# Altium footprint library RectangularConnectors.PcbLib: 154 footprints (part 7 of 10)
Each footprint in its own frame and in the unit in brackets; x right, y up, seen from the top. Pads: shape width x height; smd on the part's side, far side on the other; paste and mask are expansions set on the pad; w line width, h text height; cw(c..) or ccw(c..) is an arc to the next point about the centre after c.
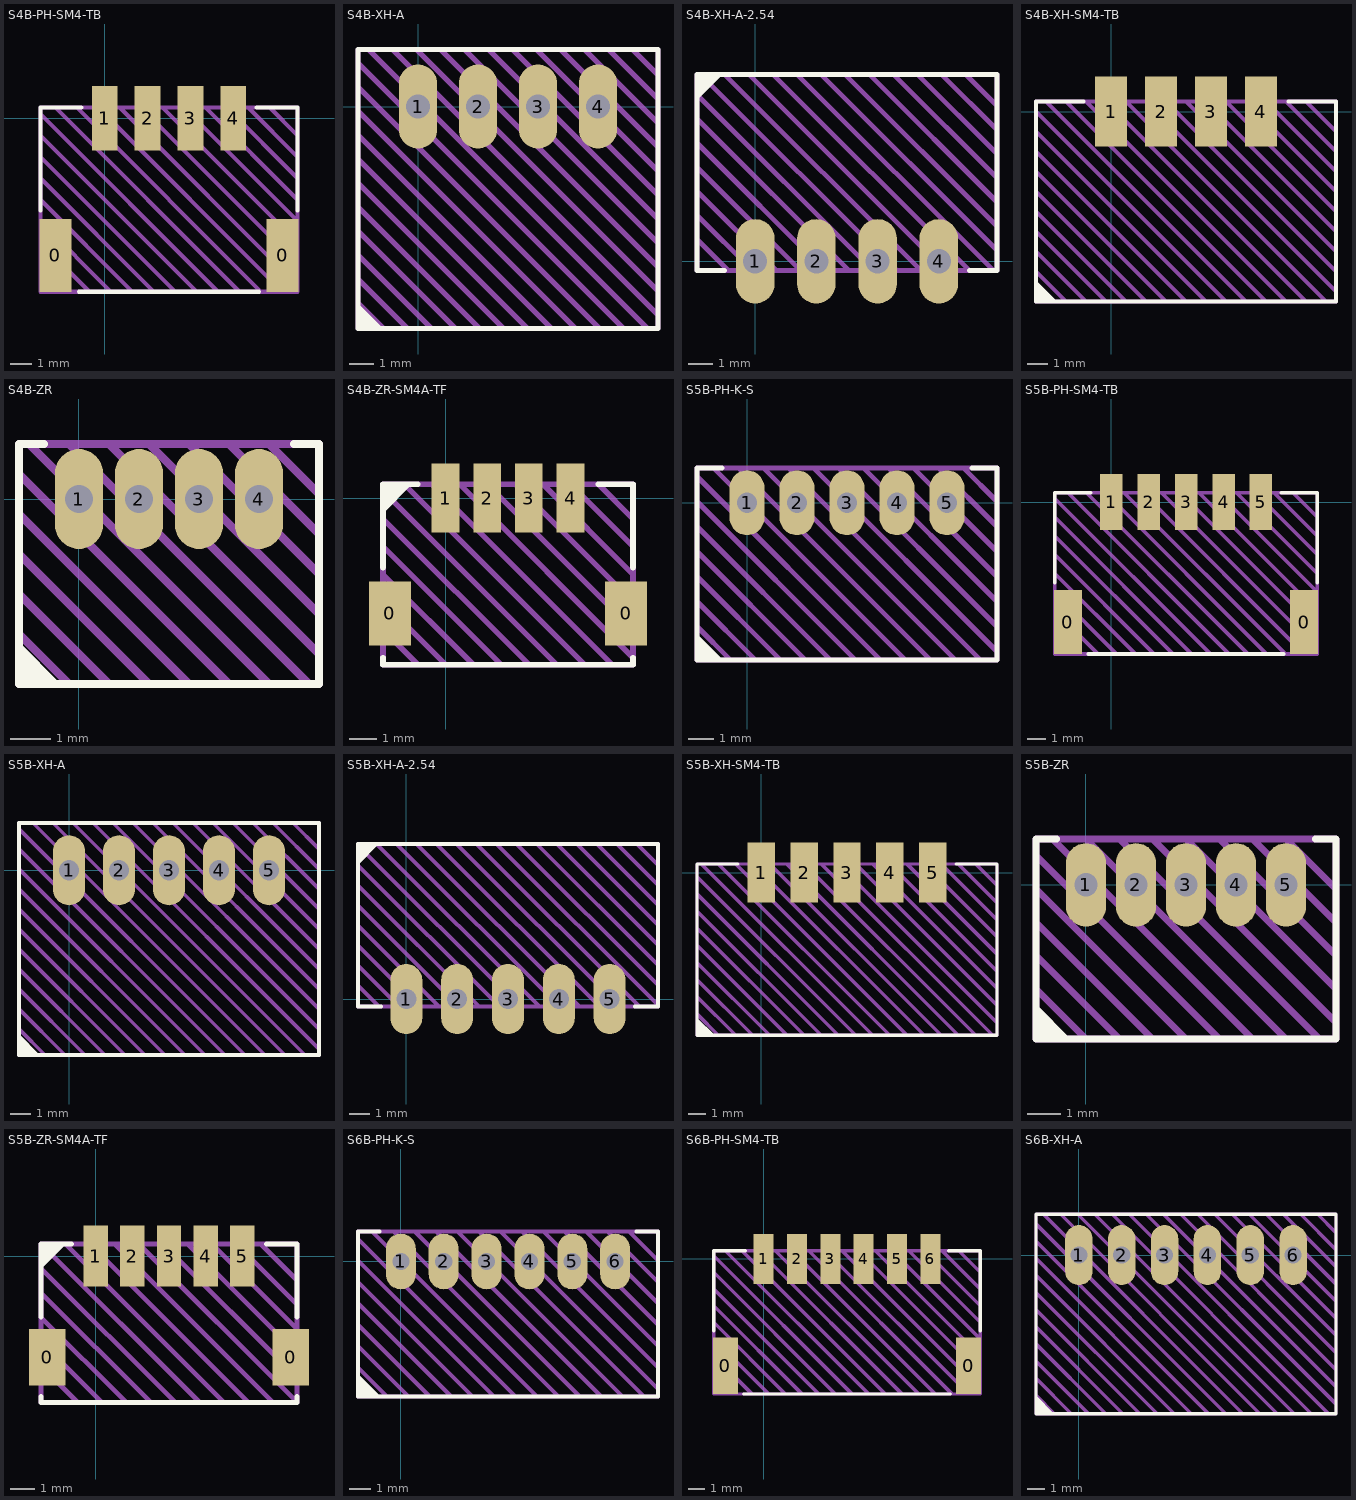
[diagram p6: the footprints below, top view; thin cyan lines are the x and y axes]

## S4B-PH-SM4-TB [mm] "PH2.0 SMT Right Angle"
pads (6):
  rect 1.5x3.4 smd: 0(-2.3,-6.4) 0(8.3,-6.4)
  rect 1.2x3 smd: 1(0,0) 2(2,0) 3(4,0) 4(6,0)
Top Overlay:
  lines w0.2: -3,-4.3 -3,0.5 -1.1,0.5 ; -1.2,-8.1 7.2,-8.1 ; 7.1,0.5 9,0.5 9,-4.3
Top Draw:
  lines w0.2: -3,-6.8 -1.7,-8.1 ; -3,-5.8 -0.7,-8.1 ; -3,-4.8 0.3,-8.1 ; -3,-3.8 1.3,-8.1 ; -3,-2.8 2.3,-8.1 ; -3,-1.8 3.3,-8.1 ; -3,-0.8 4.3,-8.1 ; -3,0.2 5.3,-8.1 ; -2.3,0.5 6.3,-8.1 ; -1.3,0.5 7.3,-8.1 ; -0.3,0.5 8.3,-8.1 ; 0.7,0.5 9,-7.8 ; 1.7,0.5 9,-6.8 ; 2.7,0.5 9,-5.8 ; 3.7,0.5 9,-4.8 ; 4.7,0.5 9,-3.8 ; 5.7,0.5 9,-2.8 ; 6.7,0.5 9,-1.8 ; 7.7,0.5 9,-0.8 ; -3,-8.1 -3,0.5 9,0.5 9,-8.1 -3,-8.1
Top Info:
  text "'.Comment'" at -1.249,-9.583 h1
3D body "S4B-PH-SM4-TB.step": height 5.52, standoff 0.02, extent -2.95,-8.1 8.95,0.5

## S4B-XH-A [mm] "XH2.5 PTH Right Angle"
pads (4):
  oval 1.6x3.5 hole 1: 1(0,0) 2(2.5,0) 3(5,0) 4(7.5,0)
Top Overlay:
  region: -1.46,-9.25 -2.5,-8.21 -2.5,-9.25
  lines w0.2: -2.5,-9.25 -2.5,2.375 10,2.375 10,-9.25 -2.5,-9.25
Top Draw:
  lines w0.2: -2.5,-8.188 -1.438,-9.25 ; -2.5,-7.188 -0.438,-9.25 ; -2.5,-6.188 0.562,-9.25 ; -2.5,-5.188 1.562,-9.25 ; -2.5,-4.188 2.562,-9.25 ; -2.5,-3.188 3.562,-9.25 ; -2.5,-2.188 4.562,-9.25 ; -2.5,-1.188 5.562,-9.25 ; -2.5,-0.188 6.562,-9.25 ; -2.5,0.813 7.562,-9.25 ; -2.5,1.812 8.562,-9.25 ; -2.063,2.375 9.563,-9.25 ; -1.062,2.375 10,-8.688 ; -0.062,2.375 10,-7.687 ; 0.938,2.375 10,-6.687 ; 1.938,2.375 10,-5.687 ; 2.938,2.375 10,-4.687 ; 3.938,2.375 10,-3.687 ; 4.938,2.375 10,-2.687 ; 5.938,2.375 10,-1.687 ; 6.938,2.375 10,-0.687 ; 7.938,2.375 10,0.313 ; 8.938,2.375 10,1.313 ; -2.5,-9.25 -2.5,2.375 10,2.375 10,-9.25 -2.5,-9.25
Top Info:
  text "'.Comment'" at -0.499,-10.708 h1
3D body "S4B-XH-A.step": height 5.77, standoff -3.48, extent -2.45,-9.2 9.95,2.3

## S4B-XH-A-2.54 [mm] "XH2.54 PTH Right Angle"
pads (4):
  oval 1.6x3.5 hole 1: 1(0,0) 2(2.54,0) 3(5.08,0) 4(7.62,0)
Top Overlay:
  region: -2.413,6.707 -1.373,7.747 -2.413,7.747
  lines w0.2: -1.27,-0.381 -2.413,-0.381 -2.413,7.747 10.033,7.747 10.033,-0.381 8.89,-0.381
Top Draw:
  lines w0.2: -2.413,0.906 -1.126,-0.381 ; -2.413,1.906 -0.126,-0.381 ; -2.413,2.906 0.874,-0.381 ; -2.413,3.906 1.874,-0.381 ; -2.413,4.906 2.874,-0.381 ; -2.413,5.906 3.874,-0.381 ; -2.413,6.906 4.874,-0.381 ; -2.254,7.747 5.874,-0.381 ; -1.254,7.747 6.874,-0.381 ; -0.254,7.747 7.874,-0.381 ; 0.746,7.747 8.874,-0.381 ; 1.746,7.747 9.874,-0.381 ; 2.746,7.747 10.033,0.46 ; 3.746,7.747 10.033,1.46 ; 4.746,7.747 10.033,2.46 ; 5.746,7.747 10.033,3.46 ; 6.746,7.747 10.033,4.46 ; 7.746,7.747 10.033,5.46 ; 8.746,7.747 10.033,6.46 ; -2.413,-0.381 -2.413,7.747 10.033,7.747 10.033,-0.381 -2.413,-0.381
Top Info:
  text "'.Comment'" at -0.439,-3.25 h1
3D body "JST - XH - Thru (R) - 4Pin - 2.54mm.stp": height 5.84, standoff -3.38, extent -2.337,-0.325 9.957,7.712

## S4B-XH-SM4-TB [mm] "XH2.5 SMT Right Angle"
pads (4):
  rect 1.6x3.5 smd: 1(0,0) 2(2.5,0) 3(5,0) 4(7.5,0)
Top Overlay:
  region: -3.75,-8.46 -2.71,-9.5 -3.75,-9.5
  lines w0.2: -1.375,0.5 -3.75,0.5 -3.75,-9.5 11.25,-9.5 11.25,0.5 8.875,0.5
Top Draw:
  lines w0.2: -3.75,-8 -2.25,-9.5 ; -3.75,-7 -1.25,-9.5 ; -3.75,-6 -0.25,-9.5 ; -3.75,-5 0.75,-9.5 ; -3.75,-4 1.75,-9.5 ; -3.75,-3 2.75,-9.5 ; -3.75,-2 3.75,-9.5 ; -3.75,-1 4.75,-9.5 ; -3.75,0 5.75,-9.5 ; -3.25,0.5 6.75,-9.5 ; -2.25,0.5 7.75,-9.5 ; -1.25,0.5 8.75,-9.5 ; -0.25,0.5 9.75,-9.5 ; 0.75,0.5 10.75,-9.5 ; 1.75,0.5 11.25,-9 ; 2.75,0.5 11.25,-8 ; 3.75,0.5 11.25,-7 ; 4.75,0.5 11.25,-6 ; 5.75,0.5 11.25,-5 ; 6.75,0.5 11.25,-4 ; 7.75,0.5 11.25,-3 ; 8.75,0.5 11.25,-2 ; 9.75,0.5 11.25,-1 ; -3.75,-9.5 -3.75,0.5 11.25,0.5 11.25,-9.5 -3.75,-9.5
Top Info:
  text "'.Comment'" at -0.499,-10.958 h1
3D body "S4B-XH-SM4-TB.step": height 6, standoff 0, extent -3.75,-9.5 11.25,0.5

## S4B-ZR [mm] "ZH1.5 PTH Right Angle"
pads (4):
  oval 1.2x2.5 hole 0.7: 1(0,0) 2(1.5,0) 3(3,0) 4(4.5,0)
Top Overlay:
  region: -0.46,-4.625 -1.5,-3.585 -1.5,-4.625
  lines w0.2: -0.875,1.375 -1.5,1.375 -1.5,-4.625 6,-4.625 6,1.375 5.375,1.375
Top Draw:
  lines w0.2: -1.5,-3.375 -0.25,-4.625 ; -1.5,-2.375 0.75,-4.625 ; -1.5,-1.375 1.75,-4.625 ; -1.5,-0.375 2.75,-4.625 ; -1.5,0.625 3.75,-4.625 ; -1.25,1.375 4.75,-4.625 ; -0.25,1.375 5.75,-4.625 ; 0.75,1.375 6,-3.875 ; 1.75,1.375 6,-2.875 ; 2.75,1.375 6,-1.875 ; 3.75,1.375 6,-0.875 ; 4.75,1.375 6,0.125 ; -1.5,-4.625 -1.5,1.375 6,1.375 6,-4.625 -1.5,-4.625
Top Info:
  text "'.Comment'" at -0.936,-5.812 h0.75
3D body "S4B-ZR.step": height 3.72, standoff -2.68, extent -1.5,-4.6 6,1.4

## S4B-ZR-SM4A-TF [mm] "ZH1.5 SMT Right Angle"
pads (6):
  rect 1.5x2.3 smd: 0(-2,-4.15) 0(6.5,-4.15)
  rect 1x2.5 smd: 1(0,0) 2(1.5,0) 3(3,0) 4(4.5,0)
Top Overlay:
  region: -1.21,0.5 -2.25,-0.54 -2.25,0.5
  lines w0.2: -2.25,-5.75 -2.25,-6 6.75,-6 6.75,-5.75 ; -2.25,-2.5 -2.25,0.5 -1,0.5 ; 5.5,0.5 6.75,0.5 6.75,-2.5
Top Draw:
  lines w0.2: -2.25,-4.75 -1,-6 ; -2.25,-3.75 0,-6 ; -2.25,-2.75 1,-6 ; -2.25,-1.75 2,-6 ; -2.25,-0.75 3,-6 ; -2.25,0.25 4,-6 ; -1.5,0.5 5,-6 ; -0.5,0.5 6,-6 ; 0.5,0.5 6.75,-5.75 ; 1.5,0.5 6.75,-4.75 ; 2.5,0.5 6.75,-3.75 ; 3.5,0.5 6.75,-2.75 ; 4.5,0.5 6.75,-1.75 ; 5.5,0.5 6.75,-0.75 ; -2.25,-6 -2.25,0.5 6.75,0.5 6.75,-6 -2.25,-6
Top Info:
  text "'.Comment'" at -0.936,-7.187 h0.75
3D body "S4B-ZR-SM4A-TF.step": height 3.72, standoff 0.02, extent -2.25,-6 6.75,0.5

## S5B-PH-K-S [mm] "PH2.0 PTH Right Angle"
pads (5):
  oval 1.4x2.6 hole 0.8: 1(0,0) 2(2,0) 3(4,0) 4(6,0) 5(8,0)
Top Overlay:
  region: -0.96,-6.3 -2,-5.26 -2,-6.3
  lines w0.2: -1,1.4 -2,1.4 -2,-6.3 10,-6.3 10,1.4 ; 9,1.4 10,1.4 ; 10,1.4 10,1.4
Top Draw:
  lines w0.2: -2,-4.95 -0.65,-6.3 ; -2,-3.95 0.35,-6.3 ; -2,-2.95 1.35,-6.3 ; -2,-1.95 2.35,-6.3 ; -2,-0.95 3.35,-6.3 ; -2,0.05 4.35,-6.3 ; -2,1.05 5.35,-6.3 ; -1.35,1.4 6.35,-6.3 ; -0.35,1.4 7.35,-6.3 ; 0.65,1.4 8.35,-6.3 ; 1.65,1.4 9.35,-6.3 ; 2.65,1.4 10,-5.95 ; 3.65,1.4 10,-4.95 ; 4.65,1.4 10,-3.95 ; 5.65,1.4 10,-2.95 ; 6.65,1.4 10,-1.95 ; 7.65,1.4 10,-0.95 ; 8.65,1.4 10,0.05 ; -2,-6.3 10,-6.3 10,1.4 -2,1.4 -2,-6.3
Top Info:
  text "'.Comment'" at -0.249,-7.783 h1
3D body "S5B-PH-K-S.stp": height 4.62, standoff -3.38, extent -1.95,-6.25 9.95,1.35

## S5B-PH-SM4-TB [mm] "PH2.0 SMT Right Angle"
pads (7):
  rect 1.5x3.4 smd: 0(-2.3,-6.4) 0(10.3,-6.4)
  rect 1.2x3 smd: 1(0,0) 2(2,0) 3(4,0) 4(6,0) 5(8,0)
Top Overlay:
  lines w0.2: -3,-4.3 -3,0.5 -1.1,0.5 ; -1.2,-8.1 9.2,-8.1 ; 9.1,0.5 11,0.5 11,-4.3
Top Draw:
  lines w0.2: -3,-6.8 -1.7,-8.1 ; -3,-5.8 -0.7,-8.1 ; -3,-4.8 0.3,-8.1 ; -3,-3.8 1.3,-8.1 ; -3,-2.8 2.3,-8.1 ; -3,-1.8 3.3,-8.1 ; -3,-0.8 4.3,-8.1 ; -3,0.2 5.3,-8.1 ; -2.3,0.5 6.3,-8.1 ; -1.3,0.5 7.3,-8.1 ; -0.3,0.5 8.3,-8.1 ; 0.7,0.5 9.3,-8.1 ; 1.7,0.5 10.3,-8.1 ; 2.7,0.5 11,-7.8 ; 3.7,0.5 11,-6.8 ; 4.7,0.5 11,-5.8 ; 5.7,0.5 11,-4.8 ; 6.7,0.5 11,-3.8 ; 7.7,0.5 11,-2.8 ; 8.7,0.5 11,-1.8 ; 9.7,0.5 11,-0.8 ; -3,-8.1 -3,0.5 11,0.5 11,-8.1 -3,-8.1
Top Info:
  text "'.Comment'" at -0.249,-9.583 h1
3D body "S5B-PH-SM4-TB.step": height 5.52, standoff 0.02, extent -2.95,-8.1 10.95,0.5

## S5B-XH-A [mm] "XH2.5 PTH Right Angle"
pads (5):
  oval 1.6x3.5 hole 1: 1(0,0) 2(2.5,0) 3(5,0) 4(7.5,0) 5(10,0)
Top Overlay:
  region: -1.46,-9.25 -2.5,-8.21 -2.5,-9.25
  lines w0.2: -2.5,-9.25 -2.5,2.375 12.5,2.375 12.5,-9.25 -2.5,-9.25
Top Draw:
  lines w0.2: -2.5,-7.938 -1.188,-9.25 ; -2.5,-6.938 -0.188,-9.25 ; -2.5,-5.938 0.812,-9.25 ; -2.5,-4.938 1.812,-9.25 ; -2.5,-3.938 2.812,-9.25 ; -2.5,-2.938 3.812,-9.25 ; -2.5,-1.938 4.812,-9.25 ; -2.5,-0.938 5.812,-9.25 ; -2.5,0.062 6.812,-9.25 ; -2.5,1.062 7.812,-9.25 ; -2.5,2.063 8.812,-9.25 ; -1.812,2.375 9.812,-9.25 ; -0.813,2.375 10.813,-9.25 ; 0.188,2.375 11.812,-9.25 ; 1.188,2.375 12.5,-8.937 ; 2.188,2.375 12.5,-7.938 ; 3.188,2.375 12.5,-6.937 ; 4.188,2.375 12.5,-5.937 ; 5.188,2.375 12.5,-4.937 ; 6.188,2.375 12.5,-3.937 ; 7.188,2.375 12.5,-2.937 ; 8.188,2.375 12.5,-1.937 ; 9.188,2.375 12.5,-0.937 ; 10.188,2.375 12.5,0.063 ; 11.188,2.375 12.5,1.063 ; -2.5,-9.25 -2.5,2.375 12.5,2.375 12.5,-9.25 -2.5,-9.25
Top Info:
  text "'.Comment'" at 0.751,-10.708 h1
3D body "S5B-XH-A.step": height 5.77, standoff -3.48, extent -2.45,-9.2 12.45,2.3

## S5B-XH-A-2.54 [mm] "XH2.54 PTH Right Angle"
pads (5):
  oval 1.6x3.5 hole 1: 1(0,0) 2(2.54,0) 3(5.08,0) 4(7.62,0) 5(10.16,0)
Top Overlay:
  region: -2.413,6.707 -1.373,7.747 -2.413,7.747
  lines w0.2: -1.27,-0.381 -2.413,-0.381 -2.413,7.747 12.573,7.747 12.573,-0.381 11.43,-0.381
Top Draw:
  lines w0.2: -2.413,0.676 -1.356,-0.381 ; -2.413,1.676 -0.356,-0.381 ; -2.413,2.676 0.644,-0.381 ; -2.413,3.676 1.644,-0.381 ; -2.413,4.676 2.644,-0.381 ; -2.413,5.676 3.644,-0.381 ; -2.413,6.676 4.644,-0.381 ; -2.413,7.676 5.644,-0.381 ; -1.484,7.747 6.644,-0.381 ; -0.484,7.747 7.644,-0.381 ; 0.516,7.747 8.644,-0.381 ; 1.516,7.747 9.644,-0.381 ; 2.516,7.747 10.644,-0.381 ; 3.516,7.747 11.644,-0.381 ; 4.516,7.747 12.573,-0.31 ; 5.516,7.747 12.573,0.69 ; 6.516,7.747 12.573,1.69 ; 7.516,7.747 12.573,2.69 ; 8.516,7.747 12.573,3.69 ; 9.516,7.747 12.573,4.69 ; 10.516,7.747 12.573,5.69 ; 11.516,7.747 12.573,6.69 ; -2.413,-0.381 -2.413,7.747 12.573,7.747 12.573,-0.381 -2.413,-0.381
Top Info:
  text "'.Comment'" at 0.831,-3.25 h1
3D body "JST - XH - Thru (R) - 5Pin - 2.54mm.stp": height 5.84, standoff -3.38, extent -2.337,-0.325 12.497,7.712

## S5B-XH-SM4-TB [mm] "XH2.5 SMT Right Angle"
pads (5):
  rect 1.6x3.5 smd: 1(0,0) 2(2.5,0) 3(5,0) 4(7.5,0) 5(10,0)
Top Overlay:
  region: -3.75,-8.46 -2.71,-9.5 -3.75,-9.5
  lines w0.2: -1.375,0.5 -3.75,0.5 -3.75,-9.5 13.75,-9.5 13.75,0.5 11.375,0.5
Top Draw:
  lines w0.2: -3.75,-8.25 -2.5,-9.5 ; -3.75,-7.25 -1.5,-9.5 ; -3.75,-6.25 -0.5,-9.5 ; -3.75,-5.25 0.5,-9.5 ; -3.75,-4.25 1.5,-9.5 ; -3.75,-3.25 2.5,-9.5 ; -3.75,-2.25 3.5,-9.5 ; -3.75,-1.25 4.5,-9.5 ; -3.75,-0.25 5.5,-9.5 ; -3.5,0.5 6.5,-9.5 ; -2.5,0.5 7.5,-9.5 ; -1.5,0.5 8.5,-9.5 ; -0.5,0.5 9.5,-9.5 ; 0.5,0.5 10.5,-9.5 ; 1.5,0.5 11.5,-9.5 ; 2.5,0.5 12.5,-9.5 ; 3.5,0.5 13.5,-9.5 ; 4.5,0.5 13.75,-8.75 ; 5.5,0.5 13.75,-7.75 ; 6.5,0.5 13.75,-6.75 ; 7.5,0.5 13.75,-5.75 ; 8.5,0.5 13.75,-4.75 ; 9.5,0.5 13.75,-3.75 ; 10.5,0.5 13.75,-2.75 ; 11.5,0.5 13.75,-1.75 ; 12.5,0.5 13.75,-0.75 ; -3.75,-9.5 -3.75,0.5 13.75,0.5 13.75,-9.5 -3.75,-9.5
Top Info:
  text "'.Comment'" at 0.751,-10.958 h1
3D body "S5B-XH-SM4-TB.step": height 6, standoff 0, extent -3.75,-9.5 13.75,0.5

## S5B-ZR [mm] "ZH1.5 PTH Right Angle"
pads (5):
  oval 1.2x2.5 hole 0.7: 1(0,0) 2(1.5,0) 3(3,0) 4(4.5,0) 5(6,0)
Top Overlay:
  region: -0.46,-4.625 -1.5,-3.585 -1.5,-4.625
  lines w0.2: -0.875,1.375 -1.5,1.375 -1.5,-4.625 7.5,-4.625 7.5,1.375 6.875,1.375
Top Draw:
  lines w0.2: -1.5,-3.125 0,-4.625 ; -1.5,-2.125 1,-4.625 ; -1.5,-1.125 2,-4.625 ; -1.5,-0.125 3,-4.625 ; -1.5,0.875 4,-4.625 ; -1,1.375 5,-4.625 ; 0,1.375 6,-4.625 ; 1,1.375 7,-4.625 ; 2,1.375 7.5,-4.125 ; 3,1.375 7.5,-3.125 ; 4,1.375 7.5,-2.125 ; 5,1.375 7.5,-1.125 ; 6,1.375 7.5,-0.125 ; -1.5,-4.625 7.5,-4.625 7.5,1.375 -1.5,1.375 -1.5,-4.625
Top Info:
  text "'.Comment'" at -0.186,-5.812 h0.75
3D body "S5B-ZR.step": height 3.72, standoff -2.68, extent -1.5,-4.6 7.5,1.4

## S5B-ZR-SM4A-TF [mm] "ZH1.5 SMT Right Angle"
pads (7):
  rect 1.5x2.3 smd: 0(-2,-4.15) 0(8,-4.15)
  rect 1x2.5 smd: 1(0,0) 2(1.5,0) 3(3,0) 4(4.5,0) 5(6,0)
Top Overlay:
  region: -1.21,0.5 -2.25,-0.54 -2.25,0.5
  lines w0.2: -2.25,-5.75 -2.25,-6 8.25,-6 8.25,-5.75 ; -2.25,-2.5 -2.25,0.5 -1,0.5 ; 7,0.5 8.25,0.5 8.25,-2.5
Top Draw:
  lines w0.2: -2.25,-4.5 -0.75,-6 ; -2.25,-3.5 0.25,-6 ; -2.25,-2.5 1.25,-6 ; -2.25,-1.5 2.25,-6 ; -2.25,-0.5 3.25,-6 ; -1.25,0.5 5.25,-6 ; -0.25,0.5 6.25,-6 ; 0.75,0.5 7.25,-6 ; 1.75,0.5 8.25,-6 ; 2.75,0.5 8.25,-5 ; 3.75,0.5 8.25,-4 ; 4.25,-6 -2.25,0.5 ; 4.75,0.5 8.25,-3 ; 5.75,0.5 8.25,-2 ; 6.75,0.5 8.25,-1 ; -2.25,0.5 8.25,0.5 8.25,-6 ; -2.25,0.5 -2.25,-6 8.25,-6
Top Info:
  text "'.Comment'" at -0.186,-7.187 h0.75
3D body "S5B-ZR-SM4A-TF.step": height 3.72, standoff 0.02, extent -2.25,-6 8.25,0.5

## S6B-PH-K-S [mm] "PH2.0 PTH Right Angle"
pads (6):
  oval 1.4x2.6 hole 0.8: 1(0,0) 2(2,0) 3(4,0) 4(6,0) 5(8,0) 6(10,0)
Top Overlay:
  region: -0.96,-6.3 -2,-5.26 -2,-6.3
  lines w0.2: -1,1.4 -2,1.4 -2,-6.3 12,-6.3 12,1.4 11,1.4
Top Draw:
  lines w0.2: -2,-4.95 -0.65,-6.3 ; -2,-3.95 0.35,-6.3 ; -2,-2.95 1.35,-6.3 ; -2,-1.95 2.35,-6.3 ; -2,-0.95 3.35,-6.3 ; -2,0.05 4.35,-6.3 ; -2,1.05 5.35,-6.3 ; -1.35,1.4 6.35,-6.3 ; -0.35,1.4 7.35,-6.3 ; 0.65,1.4 8.35,-6.3 ; 1.65,1.4 9.35,-6.3 ; 2.65,1.4 10.35,-6.3 ; 3.65,1.4 11.35,-6.3 ; 4.65,1.4 12,-5.95 ; 5.65,1.4 12,-4.95 ; 6.65,1.4 12,-3.95 ; 7.65,1.4 12,-2.95 ; 8.65,1.4 12,-1.95 ; 9.65,1.4 12,-0.95 ; 10.65,1.4 12,0.05 ; -2,-6.3 -2,1.4 12,1.4 12,-6.3 -2,-6.3
Top Info:
  text "'.Comment'" at 0.751,-7.783 h1
3D body "S6B-PH-K-S.stp": height 4.62, standoff -3.38, extent -1.95,-6.25 11.95,1.35

## S6B-PH-SM4-TB [mm] "PH2.0 SMT Right Angle"
pads (8):
  rect 1.5x3.4 smd: 0(-2.3,-6.4) 0(12.3,-6.4)
  rect 1.2x3 smd: 1(0,0) 2(2,0) 3(4,0) 4(6,0) 5(8,0) 6(10,0)
Top Overlay:
  lines w0.2: -3,-4.3 -3,0.5 -1.1,0.5 ; -1.2,-8.1 11.2,-8.1 ; 11.1,0.5 13,0.5 13,-4.3
Top Draw:
  lines w0.2: -3,-6.8 -1.7,-8.1 ; -3,-5.8 -0.7,-8.1 ; -3,-4.8 0.3,-8.1 ; -3,-3.8 1.3,-8.1 ; -3,-2.8 2.3,-8.1 ; -3,-1.8 3.3,-8.1 ; -3,-0.8 4.3,-8.1 ; -3,0.2 5.3,-8.1 ; -2.3,0.5 6.3,-8.1 ; -1.3,0.5 7.3,-8.1 ; -0.3,0.5 8.3,-8.1 ; 0.7,0.5 9.3,-8.1 ; 1.7,0.5 10.3,-8.1 ; 2.7,0.5 11.3,-8.1 ; 3.7,0.5 12.3,-8.1 ; 4.7,0.5 13,-7.8 ; 5.7,0.5 13,-6.8 ; 6.7,0.5 13,-5.8 ; 7.7,0.5 13,-4.8 ; 8.7,0.5 13,-3.8 ; 9.7,0.5 13,-2.8 ; 10.7,0.5 13,-1.8 ; 11.7,0.5 13,-0.8 ; -3,-8.1 -3,0.5 13,0.5 13,-8.1 -3,-8.1
Top Info:
  text "'.Comment'" at 0.751,-9.583 h1
3D body "S6B-PH-SM4-TB.step": height 5.52, standoff 0.02, extent -2.95,-8.1 12.95,0.5

## S6B-XH-A [mm] "XH2.5 PTH Right Angle"
pads (6):
  oval 1.6x3.5 hole 1: 1(0,0) 2(2.5,0) 3(5,0) 4(7.5,0) 5(10,0) 6(12.5,0)
Top Overlay:
  region: -1.46,-9.25 -2.5,-8.21 -2.5,-9.25
  lines w0.2: -2.5,-9.25 -2.5,2.375 15,2.375 15,-9.25 -2.5,-9.25
Top Draw:
  lines w0.2: -2.5,-8.188 -1.438,-9.25 ; -2.5,-7.188 -0.438,-9.25 ; -2.5,-6.188 0.562,-9.25 ; -2.5,-5.188 1.562,-9.25 ; -2.5,-4.188 2.562,-9.25 ; -2.5,-3.188 3.562,-9.25 ; -2.5,-2.188 4.562,-9.25 ; -2.5,-1.188 5.562,-9.25 ; -2.5,-0.188 6.562,-9.25 ; -2.5,0.812 7.562,-9.25 ; -2.5,1.812 8.562,-9.25 ; -2.063,2.375 9.562,-9.25 ; -1.062,2.375 10.562,-9.25 ; -0.062,2.375 11.562,-9.25 ; 0.938,2.375 12.562,-9.25 ; 1.938,2.375 13.563,-9.25 ; 2.938,2.375 14.563,-9.25 ; 3.938,2.375 15,-8.687 ; 4.938,2.375 15,-7.687 ; 5.938,2.375 15,-6.687 ; 6.938,2.375 15,-5.687 ; 7.938,2.375 15,-4.687 ; 8.938,2.375 15,-3.687 ; 9.938,2.375 15,-2.687 ; 10.938,2.375 15,-1.687 ; 11.938,2.375 15,-0.687 ; 12.938,2.375 15,0.313 ; 13.938,2.375 15,1.313 ; -2.5,-9.25 -2.5,2.375 15,2.375 15,-9.25 -2.5,-9.25
Top Info:
  text "'.Comment'" at 2.001,-10.708 h1
3D body "S6B-XH-A.step": height 5.77, standoff -3.48, extent -2.45,-9.2 14.95,2.3